# EAGLE library part AS5045 (library SKAARHOJ)
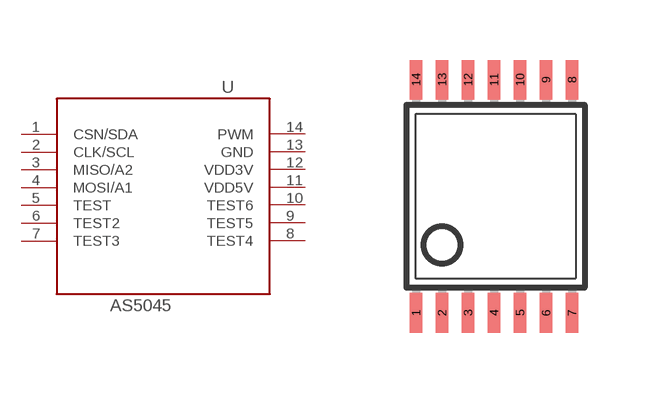
[diagram p98: symbol with the pads of TSSOP14; footprint TSSOP14]

Designator prefix -

## AS5045  [TSSOP14]
1  CSN/SDA
2  CLK/SCL
3  MISO/A2
4  MOSI/A1  out
5  TEST  nc
6  TEST2  nc
7  TEST3  nc
8  TEST4  nc
9  TEST5  nc
10  TEST6  nc
11  VDD5V  pwr
12  VDD3V  pwr
13  GND  pwr
14  PWM  out

## Footprint TSSOP14 (pad centres in mm)
smd 0.305 x 0.991: 1 -2.305,-2.918; 2 -1.655,-2.918; 3 -1.005,-2.918; 4 -0.355,-2.918; 5 0.295,-2.918; 6 0.945,-2.918; 7 1.595,-2.918; 8 1.595,2.918; 9 0.945,2.918; 10 0.295,2.918; 11 -0.355,2.918; 12 -1.005,2.918; 13 -1.655,2.918; 14 -2.305,2.918